# Altium integrated library Texas Instruments Interface 1394.IntLib: 47 symbols (part 11 of 17)
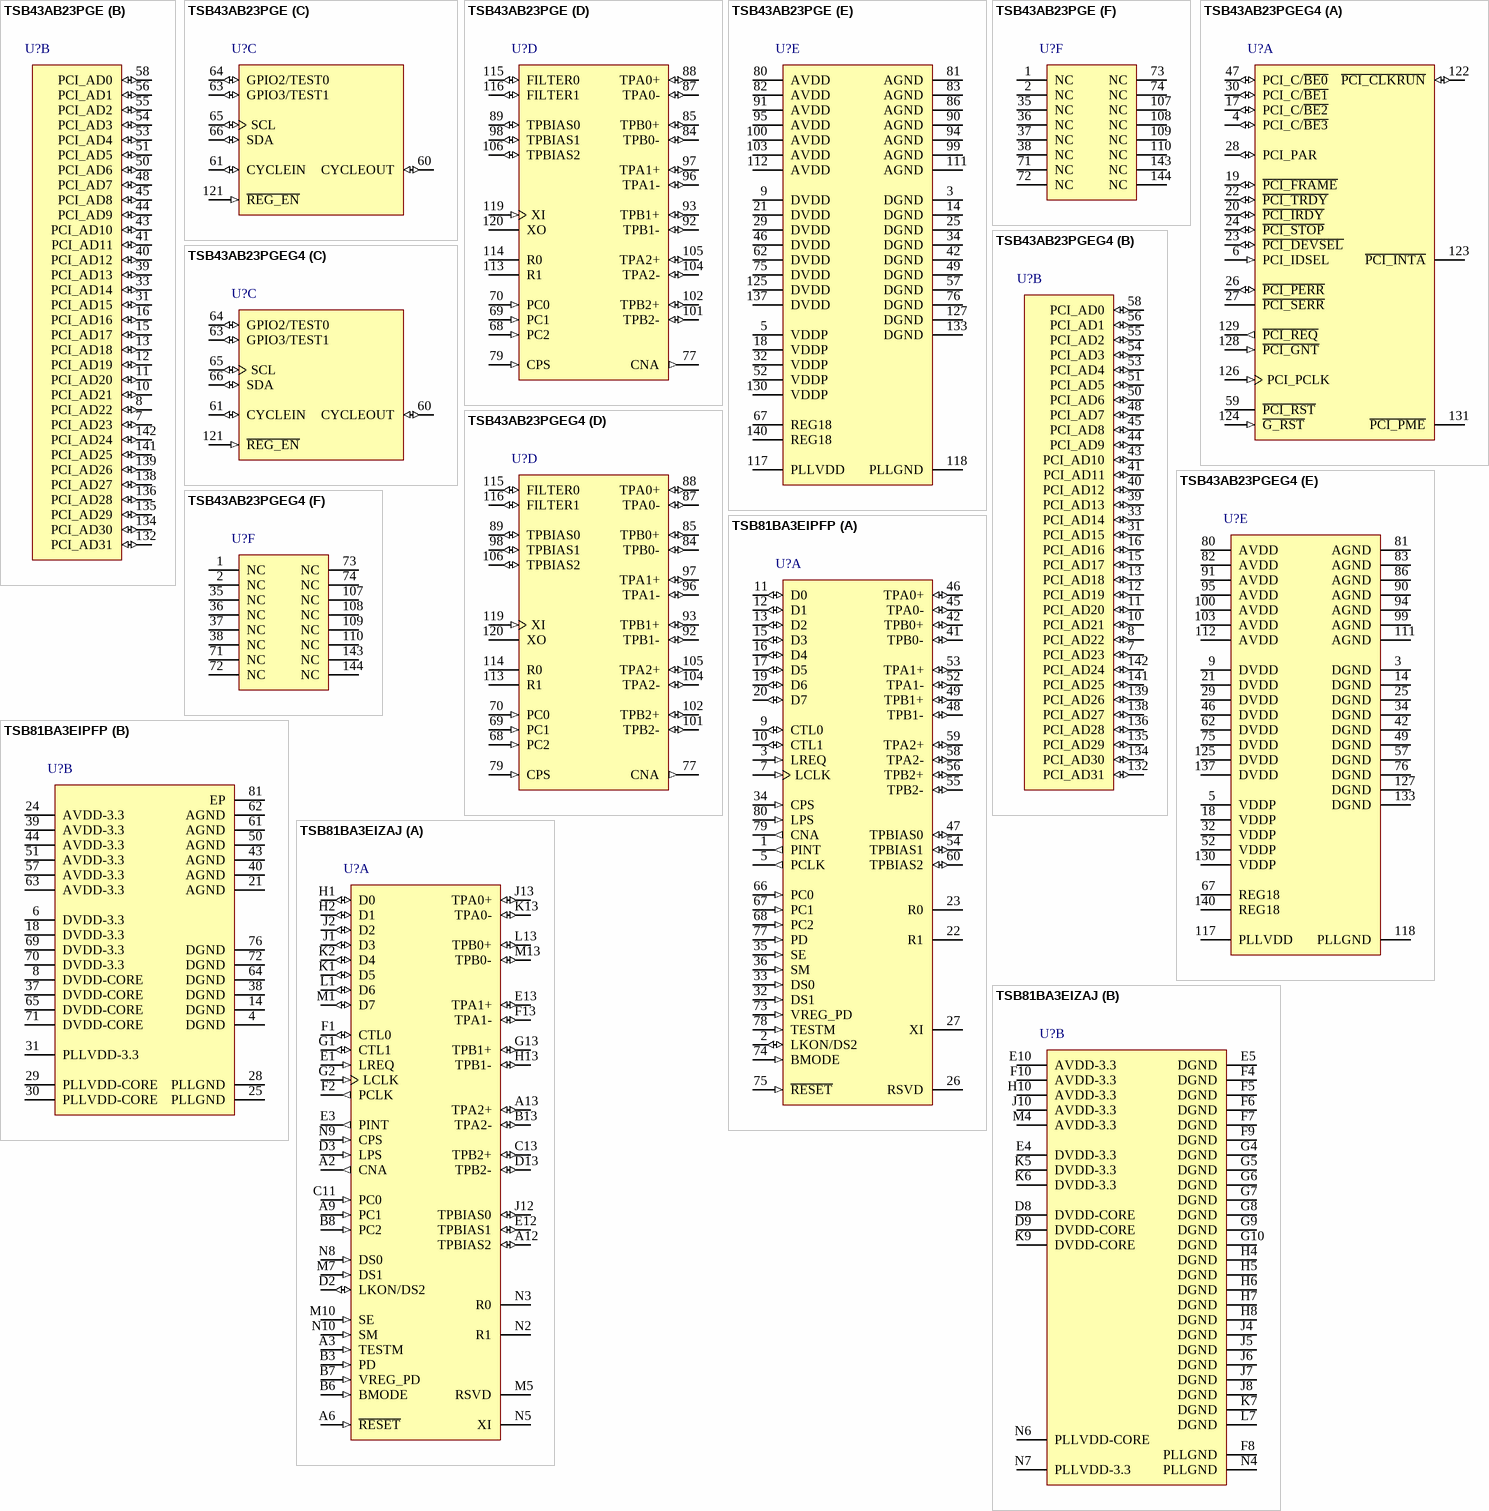
[diagram p21: symbols TSB43AB23PGE to TSB81BA3EIZAJ]

## TSB43AB23PGE
designator U?
IEEE 1394a-2000 OHCI PHY/Link Layer Controller, 0 to 70 degC, 144-Pin LQFP (PGE), Green (RoHS & no Sb/Br); PartNumber: TSB43AB23PGE; Manufacturer: Texas Instruments; SubFamily: 1394 Integrated Device; Speed(Max)(Mbps): 400; FIFO(kb): 9; DatasheetVersion: SLLS450A; PackageVersion: revC, Oct-1996; PackageReference: PGE144; PackageDescription: 144-Pin Plastic Quad Flat Pack, 20 x 20 mm Body, 0.5 mm Pitch; Mounting Technology: Surface Mount; ComponentLink1Description: Datasheet; ComponentLink1URL: http://www.ti.com/general/docs/lit/getliterature.tsp?genericPartNumber=TSB43AB23&fileType=pdf; ComponentLink2Description: Package Specification; ComponentLink2URL: http://www.ti.com/litv/pdf/mtqf017a
footprint TI-PGE144_N (Thin QFP, 144-Leads, Body 20x20mm, Pitch 0.5mm, IPC Medium Density)
footprint TI-PGE144_L (Thin QFP, 144-Leads, Body 20x20mm, Pitch 0.5mm, IPC High Density)
footprint TI-PGE144_M (Thin QFP, 144-Leads, Body 20x20mm, Pitch 0.5mm, IPC Low Density)
part A pins: 4 PCI_C/~{BE3} (io) "PCI bus commands and byte enables. The command and byte enable signals are multiplexed on the same PCI terminals. [see datasheet]", 6 PCI_IDSEL (in) "Initialization device select. PCI_IDSEL selects the TSB43AB23 device during configuration space accesses. [see datasheet]", 17 PCI_C/~{BE2} (io) "PCI bus commands and byte enables. The command and byte enable signals are multiplexed on the same PCI terminals. [see datasheet]", 19 ~{PCI_FRAME} (io) "PCI cycle frame. This signal is driven by the initiator of a PCI bus cycle. [see datasheet]", 20 ~{PCI_IRDY} (io) "PCI initiator ready. P\C\I\_\I\R\D\Y\ indicates the ability of the PCI bus initiator to complete the current data phase of the transaction. [see datasheet]", 22 ~{PCI_TRDY} (io) "PCI target ready. P\C\I\_\T\R\D\Y\ indicates the ability of the PCI bus target to complete the current data phase of the transaction. [see datasheet]", 23 ~{PCI_DEVSEL} (io) "PCI device select. The TSB43AB23 device asserts this signal to claim a PCI cycle as the target device. [see datasheet]", 24 ~{PCI_STOP} (io) "PCI cycle stop signal. This signal is driven by a PCI target to request the initiator to stop the current PCI bus transaction. [see datasheet]", 26 ~{PCI_PERR} (io) "PCI parity error indicator. [see datasheet]", 27 ~{PCI_SERR} (oc) "PCI system error. When bit 8 (SERR_ENB) in the command register at offset 04h in the PCIconfiguration space (see Section 3. [see datasheet]", 28 PCI_PAR (io) "PCI parity. In all PCI bus read and write cycles, the TSB43AB23 device calculates even parity across the PCI_AD and PCI_C/B\E\ buses. [see datasheet]", 30 PCI_C/~{BE1} (io) "PCI bus commands and byte enables. The command and byte enable signals are multiplexed on the same PCI terminals. [see datasheet]", 47 PCI_C/~{BE0} (io) "PCI bus commands and byte enables. The command and byte enable signals are multiplexed on thesame PCI terminals. [see datasheet]", 59 ~{PCI_RST} (hiz) "PCI reset. [see datasheet]", 122 ~{PCI_CLKRUN} (io) "Clock run. This terminal provides clock control through the C\L\K\R\U\N\ protocol. [see datasheet]", 123 ~{PCI_INTA} (oc) "Interrupt signal. This output indicates interrupts from the TSB43AB23 device to the host. This terminal is implemented as open-drain.", 124 ~{G_RST} (in) "Global power reset. This reset brings all of the TSB43AB23 internal registers to their default states,including those registers not reset by P\C\I\_\R\S\T\. [see datasheet]", 126 PCI_PCLK (in) "PCI bus clock. Provides timing for all transactions on the PCI bus. All PCI signals are sampled at the rising edge of PCI_CLK.", 128 ~{PCI_GNT} (in) "PCI bus grant. This signal is driven by the PCI bus arbiter to grant the TSB43AB23 device access to the PCI bus after the current data transaction has completed. [see datasheet]", 129 ~{PCI_REQ} (out) "PCI bus request. Asserted by the TSB43AB23 device to request access to the bus as an initiator. [see datasheet]", 131 ~{PCI_PME} (oc) "Power management event. This terminal indicates wake events to the host and is implemented as an open-drain output."
part B pins: 7 PCI_AD23 (io) "PCI address/data bus. These signals make up the multiplexed PCI address and data bus on the PCI interface. [see datasheet]", 8 PCI_AD22 (io) "PCI address/data bus. These signals make up the multiplexed PCI address and data bus on the PCI interface. [see datasheet]", 10 PCI_AD21 (io) "PCI address/data bus. These signals make up the multiplexed PCI address and data bus on the PCI interface. [see datasheet]", 11 PCI_AD20 (io) "PCI address/data bus. These signals make up the multiplexed PCI address and data bus on the PCI interface. [see datasheet]", 12 PCI_AD19 (io) "PCI address/data bus. These signals make up the multiplexed PCI address and data bus on the PCI interface. [see datasheet]", 13 PCI_AD18 (io) "PCI address/data bus. These signals make up the multiplexed PCI address and data bus on the PCI interface. [see datasheet]", 15 PCI_AD17 (io) "PCI address/data bus. These signals make up the multiplexed PCI address and data bus on the PCI interface. [see datasheet]", 16 PCI_AD16 (io) "PCI address/data bus. These signals make up the multiplexed PCI address and data bus on the PCI interface. [see datasheet]", 31 PCI_AD15 (io) "PCI address/data bus. These signals make up the multiplexed PCI address and data bus on the PCI interface. [see datasheet]", 33 PCI_AD14 (io) "PCI address/data bus. These signals make up the multiplexed PCI address and data bus on the PCI interface. [see datasheet]", 39 PCI_AD13 (io) "PCI address/data bus. These signals make up the multiplexed PCI address and data bus on the PCI interface. [see datasheet]", 40 PCI_AD12 (io) "PCI address/data bus. These signals make up the multiplexed PCI address and data bus on the PCI interface. [see datasheet]", 41 PCI_AD11 (io) "PCI address/data bus. These signals make up the multiplexed PCI address and data bus on the PCI interface. [see datasheet]", 43 PCI_AD10 (io) "PCI address/data bus. These signals make up the multiplexed PCI address and data bus on the PCI interface. [see datasheet]", 44 PCI_AD9 (io) "PCI address/data bus. These signals make up the multiplexed PCI address and data bus on the PCI interface. [see datasheet]", 45 PCI_AD8 (io) "PCI address/data bus. These signals make up the multiplexed PCI address and data bus on the PCI interface. [see datasheet]", 48 PCI_AD7 (io) "PCI address/data bus. These signals make up the multiplexed PCI address and data bus on the PCIinterface. [see datasheet]", 50 PCI_AD6 (io) "PCI address/data bus. These signals make up the multiplexed PCI address and data bus on the PCI interface. [see datasheet]", 51 PCI_AD5 (io) "PCI address/data bus. These signals make up the multiplexed PCI address and data bus on the PCI interface. [see datasheet]", 53 PCI_AD4 (io) "PCI address/data bus. These signals make up the multiplexed PCI address and data bus on the PCI interface. [see datasheet]", 54 PCI_AD3 (io) "PCI address/data bus. These signals make up the multiplexed PCI address and data bus on the PCI interface. [see datasheet]", 55 PCI_AD2 (io) "PCI address/data bus. These signals make up the multiplexed PCI address and data bus on the PCI interface. [see datasheet]", 56 PCI_AD1 (io) "PCI address/data bus. These signals make up the multiplexed PCI address and data bus on the PCI interface. [see datasheet]", 58 PCI_AD0 (io) "PCI address/data bus. These signals make up the multiplexed PCI address and data bus on the PCI interface. [see datasheet]", 132 PCI_AD31 (io) "PCI address/data bus. These signals make up the multiplexed PCI address and data bus on the PCI interface. [see datasheet]", 134 PCI_AD30 (io) "PCI address/data bus. These signals make up the multiplexed PCI address and data bus on the PCI interface. [see datasheet]", 135 PCI_AD29 (io) "PCI address/data bus. These signals make up the multiplexed PCI address and data bus on the PCI interface. [see datasheet]", 136 PCI_AD28 (io) "PCI address/data bus. These signals make up the multiplexed PCI address and data bus on the PCI interface. [see datasheet]", 138 PCI_AD27 (io) "PCI address/data bus. These signals make up the multiplexed PCI address and data bus on the PCI interface. [see datasheet]", 139 PCI_AD26 (io) "PCI address/data bus. These signals make up the multiplexed PCI address and data bus on the PCI interface. [see datasheet]", 141 PCI_AD25 (io) "PCI address/data bus. These signals make up the multiplexed PCI address and data bus on the PCI interface. [see datasheet]", 142 PCI_AD24 (io) "PCI address/data bus. These signals make up the multiplexed PCI address and data bus on the PCI interface. [see datasheet]"
part C pins: 60 CYCLEOUT (io) "The CYCLEOUT terminal provides an 8-kHz cycle timer synchronization signal. If CYCLEOUT is not implemented, this terminal must be pulled down to ground through a pulldown resistor.", 61 CYCLEIN (io) "The CYCLEIN terminal allows an external 8-kHz clock to be used as a cycle timer for synchronization with other system devices. [see datasheet]", 63 GPIO3/TEST1 (io) "General-purpose I/O [3]. This terminal defaults as an input and if it is not implemented, it is recommended that it be pulled low to ground with a 220-ohm resistor.", 64 GPIO2/TEST0 (io) "General-purpose I/O [2]. This terminal defaults as an input and if it is not implemented, it is recommended that it be pulled low to ground with a 220-ohm resistor.", 65 SCL (io) "Serial clock. This terminal provides the serial clock signaling and is implemented as open-drain. [see datasheet]", 66 SDA (io) "Serial data. At P\C\I\_\R\S\T\, the SDA signal is sampled to determine if a two-wire serial ROM is present. [see datasheet]", 121 ~{REG_EN} (in) "Regulator enable. This terminal must be tied to ground to enable the internal voltage regulator. When using a single 3. [see datasheet]"
part D pins: 68 PC2 (in) "Power class programming inputs. On hardware reset, these inputs set the default value ofthe power class indicated during self-ID. [see datasheet]", 69 PC1 (in) "Power class programming inputs. On hardware reset, these inputs set the default value of the power class indicated during self-ID. [see datasheet]", 70 PC0 (in) "Power class programming inputs. On hardware reset, these inputs set the default value of the power class indicated during self-ID. [see datasheet]", 77 CNA (out) "Cable not active. This terminal is asserted high when there are no ports receiving incomingbias voltage. [see datasheet]", 79 CPS (in) "Cable power status input. This terminal is normally connected to cable power through a 400-k ohm resistor. [see datasheet]", 84 TPB0- (io) "Twisted-pair cable B differential signal terminals. [see datasheet]", 85 TPB0+ (io) "Twisted-pair cable B differential signal terminals. [see datasheet]", 87 TPA0- (io) "Twisted-pair cable A differential signal terminals. [see datasheet]", 88 TPA0+ (io) "Twisted-pair cable A differential signal terminals. [see datasheet]", 89 TPBIAS0 (io) "Twisted-pair bias output. This provides the 1. [see datasheet]", 92 TPB1- (io) "Twisted-pair cable B differential signal terminals. [see datasheet]", 93 TPB1+ (io) "Twisted-pair cable B differential signal terminals. [see datasheet]", 96 TPA1- (io) "Twisted-pair cable A differential signal terminals. [see datasheet]", 97 TPA1+ (io) "Twisted-pair cable A differential signal terminals. [see datasheet]", 98 TPBIAS1 (io) "Twisted-pair bias output. This provides the 1. [see datasheet]", 101 TPB2- (io) "Twisted-pair cable B differential signal terminals. [see datasheet]", 102 TPB2+ (io) "Twisted-pair cable B differential signal terminals. [see datasheet]", 104 TPA2- (io) "Twisted-pair cable A differential signal terminals. [see datasheet]", 105 TPA2+ (io) "Twisted-pair cable A differential signal terminals. [see datasheet]", 106 TPBIAS2 (io) "Twisted-pair bias output. This provides the 1. [see datasheet]", 113 R1 "Current-setting resistor terminals. These terminals are connected to an external resistance to set the internal operating currents and cable driver output currents. A resistance of 6. [see datasheet]", 114 R0 "Current-setting resistor terminals. These terminals are connected to an external resistance to set the internal operating currents and cable driver output currents. A resistance of 6. [see datasheet]", 115 FILTER0 (io) "PLL filter terminals. [see datasheet]", 116 FILTER1 (io) "PLL filter terminals. [see datasheet]", 119 XI (in) "Crystal oscillator inputs. These pins connect to a 24.576-MHz parallel resonant fundamental mode crystal. [see datasheet]", 120 XO "Crystal oscillator inputs. These pins connect to a 24.576-MHz parallel resonant fundamental mode crystal. [see datasheet]"
part E pins: 3 DGND (power) "Digital circuit ground terminals. These terminals must be tied together to the low-impedance circuit board ground plane", 5 VDDP (power) "PCI signaling clamp voltage power input. PCI signals are clamped perthe PCI Local Bus Specification. In addition, if a 5-V ROM is used, the VDDP must be connected to 5 V", 9 DVDD (power) "Digital circuit power terminals. A parallel combination of high frequency decoupling capacitors near each DVDD terminal is suggested, such as 0.1 uF and 0.001 uF. [see datasheet]", 14 DGND (power) "Digital circuit ground terminals. These terminals must be tied together to the low-impedance circuit board ground plane", 18 VDDP (power) "PCI signaling clamp voltage power input. PCI signals are clamped per the PCI Local Bus Specification. In addition, if a 5-V ROM is used, the VDDP must be connected to 5 V", 21 DVDD (power) "Digital circuit power terminals. A parallel combination of high frequency decoupling capacitors near each DVDD terminal is suggested, such as 0.1 uF and 0.001 uF. [see datasheet]", 25 DGND (power) "Digital circuit ground terminals. These terminals must be tied together to the low-impedance circuit board ground plane", 29 DVDD (power) "Digital circuit power terminals. A parallel combination of high frequency decoupling capacitors near each DVDD terminal is suggested, such as 0.1 uF and 0.001 uF. [see datasheet]", 32 VDDP (power) "PCI signaling clamp voltage power input. PCI signals are clamped per the PCI Local Bus Specification. In addition, if a 5-V ROM is used, the VDDP must be connected to 5 V", 34 DGND (power) "Digital circuit ground terminals. These terminals must be tied together to the low-impedance circuit board ground plane", 42 DGND (power) "Digital circuit ground terminals. These terminals must be tied togetherto the low-impedance circuit board ground plane", 46 DVDD (power) "Digital circuit power terminals. A parallel combination of high frequency decoupling capacitors near each DVDD terminal is suggested, such as 0.1 uF and 0.001 uF. [see datasheet]", 49 DGND (power) "Digital circuit ground terminals. These terminals must be tied together to the low-impedance circuit board ground plane", 52 VDDP (power) "PCI signaling clamp voltage power input. PCI signals are clamped per the PCI Local Bus Specification. In addition, if a 5-V ROM is used, the VDDP must be connected to 5 V", 57 DGND (power) "Digital circuit ground terminals. These terminals must be tied together to the low-impedance circuit board ground plane", 62 DVDD (power) "Digital circuit power terminals. A parallel combination of high frequency decoupling capacitors near each DVDD terminal is suggested, such as 0.1 uF and 0.001 uF. [see datasheet]", 67 REG18 (power) "REG18. 1.8-V power supply for the device core. The internal voltage regulator provides 1.8 V from DVDD. [see datasheet]", 75 DVDD (power) "Digital circuit power terminals. A parallel combination of high frequency decoupling capacitors near each DVDD terminal is suggested, such as 0.1 uF and 0.001 uF. [see datasheet]", 76 DGND (power) "Digital circuit ground terminals. These terminals must be tied together to the low-impedance circuit board ground plane", 80 AVDD (power) "Analog circuit power terminals. A parallel combination of high frequency decoupling capacitors near each terminal is suggested, such as 0.1  uF and 0.001  uF. [see datasheet]", 81 AGND (power) "Analog circuit ground terminals. These terminals must be tied together to the low-impedance circuit board ground plane", 82 AVDD (power) "Analog circuit power terminals. A parallel combination of high frequency decoupling capacitors near each terminal is suggested, such as 0.1  uF and 0.001  uF. [see datasheet]", 83 AGND (power) "Analog circuit ground terminals. These terminals must be tied together to the low-impedance circuit board ground plane", 86 AGND (power) "Analog circuit ground terminals. These terminals must be tied together to the low-impedance circuit board ground plane", 90 AGND (power) "Analog circuit ground terminals. These terminals must be tied together to the low-impedance circuit board ground plane", 91 AVDD (power) "Analog circuit power terminals. A parallel combination of high frequency decoupling capacitors near each terminal is suggested, such as 0.1  uF and 0.001  uF. [see datasheet]", 94 AGND (power) "Analog circuit ground terminals. These terminals must be tied together to the low-impedance circuit board ground plane", 95 AVDD (power) "Analog circuit power terminals. A parallel combination of high frequency decoupling capacitors near each terminal is suggested, such as 0.1  uF and 0.001  uF. [see datasheet]", 99 AGND (power) "Analog circuit ground terminals. These terminals must be tied together to the low-impedance circuit board ground plane", 100 AVDD (power) "Analog circuit power terminals. A parallel combination of high frequency decoupling capacitors near each terminal is suggested, such as 0.1  uF and 0.001  uF. [see datasheet]", 103 AVDD (power) "Analog circuit power terminals. A parallel combination of high frequency decoupling capacitors near each terminal is suggested, such as 0.1  uF and 0.001  uF. [see datasheet]", 111 AGND (power) "Analog circuit ground terminals. These terminals must be tied together to the low-impedance circuit board ground plane", 112 AVDD (power) "Analog circuit power terminals. A parallel combination of high frequency decoupling capacitors near each terminal is suggested, such as 0.1  uF and 0.001  uF. [see datasheet]", 117 PLLVDD (power) "PLL circuit power terminal. A parallel combination of high frequency decoupling capacitors near the terminal is suggested, such as 0.1 uF and 0.001 uF. [see datasheet]", 118 PLLGND (power) "PLL circuit ground terminal. This terminal must be tied to the low-impedance circuit board ground plane.", 125 DVDD (power) "Digital circuit power terminals. A parallel combination of high frequency decoupling capacitors near each DVDD terminal is suggested, such as 0.1 uF and 0.001 uF. [see datasheet]", 127 DGND (power) "Digital circuit ground terminals. These terminals must be tied together to the low-impedance circuit board ground plane", 130 VDDP (power) "PCI signaling clamp voltage power input. PCI signals are clamped per the PCI Local Bus Specification. In addition, if a 5-V ROM is used, the VDDP must be connected to 5 V", 133 DGND (power) "Digital circuit ground terminals. These terminals must be tied together to the low-impedance circuit board ground plane", 137 DVDD (power) "Digital circuit power terminals. A parallel combination of high frequency decoupling capacitors near each DVDD terminal is suggested, such as 0.1 uF and 0.001 uF. [see datasheet]", 140 REG18 (power) "REG18. 1.8-V power supply for the device core. The internal voltage regulator provides 1.8 V from DVDD. [see datasheet]"
part F pins: 1 NC, 2 NC, 35 NC, 36 NC, 37 NC, 38 NC, 71 NC, 72 NC, 73 NC, 74 NC, 107 NC, 108 NC, 109 NC, 110 NC, 143 NC, 144 NC

## TSB43AB23PGEG4
designator U?
IEEE 1394a-2000 OHCI PHY/Link Layer Controller, 0 to 70 degC, 144-Pin LQFP (PGE), Green (RoHS & no Sb/Br); PartNumber: TSB43AB23PGEG4; Manufacturer: Texas Instruments; SubFamily: 1394 Integrated Device; Speed(Max)(Mbps): 400; FIFO(kb): 9; DatasheetVersion: SLLS450A; PackageVersion: revC, Oct-1996; PackageReference: PGE144; PackageDescription: 144-Pin Plastic Quad Flat Pack, 20 x 20 mm Body, 0.5 mm Pitch; Mounting Technology: Surface Mount; ComponentLink1Description: Datasheet; ComponentLink1URL: http://www.ti.com/general/docs/lit/getliterature.tsp?genericPartNumber=TSB43AB23&fileType=pdf; ComponentLink2Description: Package Specification; ComponentLink2URL: http://www.ti.com/litv/pdf/mtqf017a
footprint TI-PGE144_N (Thin QFP, 144-Leads, Body 20x20mm, Pitch 0.5mm, IPC Medium Density)
footprint TI-PGE144_L (Thin QFP, 144-Leads, Body 20x20mm, Pitch 0.5mm, IPC High Density)
footprint TI-PGE144_M (Thin QFP, 144-Leads, Body 20x20mm, Pitch 0.5mm, IPC Low Density)
part A pins: 4 PCI_C/~{BE3} (io) "PCI bus commands and byte enables. The command and byte enable signals are multiplexed on the same PCI terminals. [see datasheet]", 6 PCI_IDSEL (in) "Initialization device select. PCI_IDSEL selects the TSB43AB23 device during configuration space accesses. [see datasheet]", 17 PCI_C/~{BE2} (io) "PCI bus commands and byte enables. The command and byte enable signals are multiplexed on the same PCI terminals. [see datasheet]", 19 ~{PCI_FRAME} (io) "PCI cycle frame. This signal is driven by the initiator of a PCI bus cycle. [see datasheet]", 20 ~{PCI_IRDY} (io) "PCI initiator ready. P\C\I\_\I\R\D\Y\ indicates the ability of the PCI bus initiator to complete the current data phase of the transaction. [see datasheet]", 22 ~{PCI_TRDY} (io) "PCI target ready. P\C\I\_\T\R\D\Y\ indicates the ability of the PCI bus target to complete the current data phase of the transaction. [see datasheet]", 23 ~{PCI_DEVSEL} (io) "PCI device select. The TSB43AB23 device asserts this signal to claim a PCI cycle as the target device. [see datasheet]", 24 ~{PCI_STOP} (io) "PCI cycle stop signal. This signal is driven by a PCI target to request the initiator to stop the current PCI bus transaction. [see datasheet]", 26 ~{PCI_PERR} (io) "PCI parity error indicator. [see datasheet]", 27 ~{PCI_SERR} (oc) "PCI system error. When bit 8 (SERR_ENB) in the command register at offset 04h in the PCIconfiguration space (see Section 3. [see datasheet]", 28 PCI_PAR (io) "PCI parity. In all PCI bus read and write cycles, the TSB43AB23 device calculates even parity across the PCI_AD and PCI_C/B\E\ buses. [see datasheet]", 30 PCI_C/~{BE1} (io) "PCI bus commands and byte enables. The command and byte enable signals are multiplexed on the same PCI terminals. [see datasheet]", 47 PCI_C/~{BE0} (io) "PCI bus commands and byte enables. The command and byte enable signals are multiplexed on thesame PCI terminals. [see datasheet]", 59 ~{PCI_RST} (hiz) "PCI reset. [see datasheet]", 122 ~{PCI_CLKRUN} (io) "Clock run. This terminal provides clock control through the C\L\K\R\U\N\ protocol. [see datasheet]", 123 ~{PCI_INTA} (oc) "Interrupt signal. This output indicates interrupts from the TSB43AB23 device to the host. This terminal is implemented as open-drain.", 124 ~{G_RST} (in) "Global power reset. This reset brings all of the TSB43AB23 internal registers to their default states,including those registers not reset by P\C\I\_\R\S\T\. [see datasheet]", 126 PCI_PCLK (in) "PCI bus clock. Provides timing for all transactions on the PCI bus. All PCI signals are sampled at the rising edge of PCI_CLK.", 128 ~{PCI_GNT} (in) "PCI bus grant. This signal is driven by the PCI bus arbiter to grant the TSB43AB23 device access to the PCI bus after the current data transaction has completed. [see datasheet]", 129 ~{PCI_REQ} (out) "PCI bus request. Asserted by the TSB43AB23 device to request access to the bus as an initiator. [see datasheet]", 131 ~{PCI_PME} (oc) "Power management event. This terminal indicates wake events to the host and is implemented as an open-drain output."
part B pins: 7 PCI_AD23 (io) "PCI address/data bus. These signals make up the multiplexed PCI address and data bus on the PCI interface. [see datasheet]", 8 PCI_AD22 (io) "PCI address/data bus. These signals make up the multiplexed PCI address and data bus on the PCI interface. [see datasheet]", 10 PCI_AD21 (io) "PCI address/data bus. These signals make up the multiplexed PCI address and data bus on the PCI interface. [see datasheet]", 11 PCI_AD20 (io) "PCI address/data bus. These signals make up the multiplexed PCI address and data bus on the PCI interface. [see datasheet]", 12 PCI_AD19 (io) "PCI address/data bus. These signals make up the multiplexed PCI address and data bus on the PCI interface. [see datasheet]", 13 PCI_AD18 (io) "PCI address/data bus. These signals make up the multiplexed PCI address and data bus on the PCI interface. [see datasheet]", 15 PCI_AD17 (io) "PCI address/data bus. These signals make up the multiplexed PCI address and data bus on the PCI interface. [see datasheet]", 16 PCI_AD16 (io) "PCI address/data bus. These signals make up the multiplexed PCI address and data bus on the PCI interface. [see datasheet]", 31 PCI_AD15 (io) "PCI address/data bus. These signals make up the multiplexed PCI address and data bus on the PCI interface. [see datasheet]", 33 PCI_AD14 (io) "PCI address/data bus. These signals make up the multiplexed PCI address and data bus on the PCI interface. [see datasheet]", 39 PCI_AD13 (io) "PCI address/data bus. These signals make up the multiplexed PCI address and data bus on the PCI interface. [see datasheet]", 40 PCI_AD12 (io) "PCI address/data bus. These signals make up the multiplexed PCI address and data bus on the PCI interface. [see datasheet]", 41 PCI_AD11 (io) "PCI address/data bus. These signals make up the multiplexed PCI address and data bus on the PCI interface. [see datasheet]", 43 PCI_AD10 (io) "PCI address/data bus. These signals make up the multiplexed PCI address and data bus on the PCI interface. [see datasheet]", 44 PCI_AD9 (io) "PCI address/data bus. These signals make up the multiplexed PCI address and data bus on the PCI interface. [see datasheet]", 45 PCI_AD8 (io) "PCI address/data bus. These signals make up the multiplexed PCI address and data bus on the PCI interface. [see datasheet]", 48 PCI_AD7 (io) "PCI address/data bus. These signals make up the multiplexed PCI address and data bus on the PCIinterface. [see datasheet]", 50 PCI_AD6 (io) "PCI address/data bus. These signals make up the multiplexed PCI address and data bus on the PCI interface. [see datasheet]", 51 PCI_AD5 (io) "PCI address/data bus. These signals make up the multiplexed PCI address and data bus on the PCI interface. [see datasheet]", 53 PCI_AD4 (io) "PCI address/data bus. These signals make up the multiplexed PCI address and data bus on the PCI interface. [see datasheet]", 54 PCI_AD3 (io) "PCI address/data bus. These signals make up the multiplexed PCI address and data bus on the PCI interface. [see datasheet]", 55 PCI_AD2 (io) "PCI address/data bus. These signals make up the multiplexed PCI address and data bus on the PCI interface. [see datasheet]", 56 PCI_AD1 (io) "PCI address/data bus. These signals make up the multiplexed PCI address and data bus on the PCI interface. [see datasheet]", 58 PCI_AD0 (io) "PCI address/data bus. These signals make up the multiplexed PCI address and data bus on the PCI interface. [see datasheet]", 132 PCI_AD31 (io) "PCI address/data bus. These signals make up the multiplexed PCI address and data bus on the PCI interface. [see datasheet]", 134 PCI_AD30 (io) "PCI address/data bus. These signals make up the multiplexed PCI address and data bus on the PCI interface. [see datasheet]", 135 PCI_AD29 (io) "PCI address/data bus. These signals make up the multiplexed PCI address and data bus on the PCI interface. [see datasheet]", 136 PCI_AD28 (io) "PCI address/data bus. These signals make up the multiplexed PCI address and data bus on the PCI interface. [see datasheet]", 138 PCI_AD27 (io) "PCI address/data bus. These signals make up the multiplexed PCI address and data bus on the PCI interface. [see datasheet]", 139 PCI_AD26 (io) "PCI address/data bus. These signals make up the multiplexed PCI address and data bus on the PCI interface. [see datasheet]", 141 PCI_AD25 (io) "PCI address/data bus. These signals make up the multiplexed PCI address and data bus on the PCI interface. [see datasheet]", 142 PCI_AD24 (io) "PCI address/data bus. These signals make up the multiplexed PCI address and data bus on the PCI interface. [see datasheet]"
part C pins: 60 CYCLEOUT (io) "The CYCLEOUT terminal provides an 8-kHz cycle timer synchronization signal. If CYCLEOUT is not implemented, this terminal must be pulled down to ground through a pulldown resistor.", 61 CYCLEIN (io) "The CYCLEIN terminal allows an external 8-kHz clock to be used as a cycle timer for synchronization with other system devices. [see datasheet]", 63 GPIO3/TEST1 (io) "General-purpose I/O [3]. This terminal defaults as an input and if it is not implemented, it is recommended that it be pulled low to ground with a 220-ohm resistor.", 64 GPIO2/TEST0 (io) "General-purpose I/O [2]. This terminal defaults as an input and if it is not implemented, it is recommended that it be pulled low to ground with a 220-ohm resistor.", 65 SCL (io) "Serial clock. This terminal provides the serial clock signaling and is implemented as open-drain. [see datasheet]", 66 SDA (io) "Serial data. At P\C\I\_\R\S\T\, the SDA signal is sampled to determine if a two-wire serial ROM is present. [see datasheet]", 121 ~{REG_EN} (in) "Regulator enable. This terminal must be tied to ground to enable the internal voltage regulator. When using a single 3. [see datasheet]"
part D pins: 68 PC2 (in) "Power class programming inputs. On hardware reset, these inputs set the default value ofthe power class indicated during self-ID. [see datasheet]", 69 PC1 (in) "Power class programming inputs. On hardware reset, these inputs set the default value of the power class indicated during self-ID. [see datasheet]", 70 PC0 (in) "Power class programming inputs. On hardware reset, these inputs set the default value of the power class indicated during self-ID. [see datasheet]", 77 CNA (out) "Cable not active. This terminal is asserted high when there are no ports receiving incomingbias voltage. [see datasheet]", 79 CPS (in) "Cable power status input. This terminal is normally connected to cable power through a 400-k ohm resistor. [see datasheet]", 84 TPB0- (io) "Twisted-pair cable B differential signal terminals. [see datasheet]", 85 TPB0+ (io) "Twisted-pair cable B differential signal terminals. [see datasheet]", 87 TPA0- (io) "Twisted-pair cable A differential signal terminals. [see datasheet]", 88 TPA0+ (io) "Twisted-pair cable A differential signal terminals. [see datasheet]", 89 TPBIAS0 (io) "Twisted-pair bias output. This provides the 1. [see datasheet]", 92 TPB1- (io) "Twisted-pair cable B differential signal terminals. [see datasheet]", 93 TPB1+ (io) "Twisted-pair cable B differential signal terminals. [see datasheet]", 96 TPA1- (io) "Twisted-pair cable A differential signal terminals. [see datasheet]", 97 TPA1+ (io) "Twisted-pair cable A differential signal terminals. [see datasheet]", 98 TPBIAS1 (io) "Twisted-pair bias output. This provides the 1. [see datasheet]", 101 TPB2- (io) "Twisted-pair cable B differential signal terminals. [see datasheet]", 102 TPB2+ (io) "Twisted-pair cable B differential signal terminals. [see datasheet]", 104 TPA2- (io) "Twisted-pair cable A differential signal terminals. [see datasheet]", 105 TPA2+ (io) "Twisted-pair cable A differential signal terminals. [see datasheet]", 106 TPBIAS2 (io) "Twisted-pair bias output. This provides the 1. [see datasheet]", 113 R1 "Current-setting resistor terminals. These terminals are connected to an external resistance to set the internal operating currents and cable driver output currents. A resistance of 6. [see datasheet]", 114 R0 "Current-setting resistor terminals. These terminals are connected to an external resistance to set the internal operating currents and cable driver output currents. A resistance of 6. [see datasheet]", 115 FILTER0 (io) "PLL filter terminals. [see datasheet]", 116 FILTER1 (io) "PLL filter terminals. [see datasheet]", 119 XI (in) "Crystal oscillator inputs. These pins connect to a 24.576-MHz parallel resonant fundamental mode crystal. [see datasheet]", 120 XO "Crystal oscillator inputs. These pins connect to a 24.576-MHz parallel resonant fundamental mode crystal. [see datasheet]"
part E pins: 3 DGND (power) "Digital circuit ground terminals. These terminals must be tied together to the low-impedance circuit board ground plane", 5 VDDP (power) "PCI signaling clamp voltage power input. PCI signals are clamped perthe PCI Local Bus Specification. In addition, if a 5-V ROM is used, the VDDP must be connected to 5 V", 9 DVDD (power) "Digital circuit power terminals. A parallel combination of high frequency decoupling capacitors near each DVDD terminal is suggested, such as 0.1 uF and 0.001 uF. [see datasheet]", 14 DGND (power) "Digital circuit ground terminals. These terminals must be tied together to the low-impedance circuit board ground plane", 18 VDDP (power) "PCI signaling clamp voltage power input. PCI signals are clamped per the PCI Local Bus Specification. In addition, if a 5-V ROM is used, the VDDP must be connected to 5 V", 21 DVDD (power) "Digital circuit power terminals. A parallel combination of high frequency decoupling capacitors near each DVDD terminal is suggested, such as 0.1 uF and 0.001 uF. [see datasheet]", 25 DGND (power) "Digital circuit ground terminals. These terminals must be tied together to the low-impedance circuit board ground plane", 29 DVDD (power) "Digital circuit power terminals. A parallel combination of high frequency decoupling capacitors near each DVDD terminal is suggested, such as 0.1 uF and 0.001 uF. [see datasheet]", 32 VDDP (power) "PCI signaling clamp voltage power input. PCI signals are clamped per the PCI Local Bus Specification. In addition, if a 5-V ROM is used, the VDDP must be connected to 5 V", 34 DGND (power) "Digital circuit ground terminals. These terminals must be tied together to the low-impedance circuit board ground plane", 42 DGND (power) "Digital circuit ground terminals. These terminals must be tied togetherto the low-impedance circuit board ground plane", 46 DVDD (power) "Digital circuit power terminals. A parallel combination of high frequency decoupling capacitors near each DVDD terminal is suggested, such as 0.1 uF and 0.001 uF. [see datasheet]", 49 DGND (power) "Digital circuit ground terminals. These terminals must be tied together to the low-impedance circuit board ground plane", 52 VDDP (power) "PCI signaling clamp voltage power input. PCI signals are clamped per the PCI Local Bus Specification. In addition, if a 5-V ROM is used, the VDDP must be connected to 5 V", 57 DGND (power) "Digital circuit ground terminals. These terminals must be tied together to the low-impedance circuit board ground plane", 62 DVDD (power) "Digital circuit power terminals. A parallel combination of high frequency decoupling capacitors near each DVDD terminal is suggested, such as 0.1 uF and 0.001 uF. [see datasheet]", 67 REG18 (power) "REG18. 1.8-V power supply for the device core. The internal voltage regulator provides 1.8 V from DVDD. [see datasheet]", 75 DVDD (power) "Digital circuit power terminals. A parallel combination of high frequency decoupling capacitors near each DVDD terminal is suggested, such as 0.1 uF and 0.001 uF. [see datasheet]", 76 DGND (power) "Digital circuit ground terminals. These terminals must be tied together to the low-impedance circuit board ground plane", 80 AVDD (power) "Analog circuit power terminals. A parallel combination of high frequency decoupling capacitors near each terminal is suggested, such as 0.1  uF and 0.001  uF. [see datasheet]", 81 AGND (power) "Analog circuit ground terminals. These terminals must be tied together to the low-impedance circuit board ground plane", 82 AVDD (power) "Analog circuit power terminals. A parallel combination of high frequency decoupling capacitors near each terminal is suggested, such as 0.1  uF and 0.001  uF. [see datasheet]", 83 AGND (power) "Analog circuit ground terminals. These terminals must be tied together to the low-impedance circuit board ground plane", 86 AGND (power) "Analog circuit ground terminals. These terminals must be tied together to the low-impedance circuit board ground plane", 90 AGND (power) "Analog circuit ground terminals. These terminals must be tied together to the low-impedance circuit board ground plane", 91 AVDD (power) "Analog circuit power terminals. A parallel combination of high frequency decoupling capacitors near each terminal is suggested, such as 0.1  uF and 0.001  uF. [see datasheet]", 94 AGND (power) "Analog circuit ground terminals. These terminals must be tied together to the low-impedance circuit board ground plane", 95 AVDD (power) "Analog circuit power terminals. A parallel combination of high frequency decoupling capacitors near each terminal is suggested, such as 0.1  uF and 0.001  uF. [see datasheet]", 99 AGND (power) "Analog circuit ground terminals. These terminals must be tied together to the low-impedance circuit board ground plane", 100 AVDD (power) "Analog circuit power terminals. A parallel combination of high frequency decoupling capacitors near each terminal is suggested, such as 0.1  uF and 0.001  uF. [see datasheet]", 103 AVDD (power) "Analog circuit power terminals. A parallel combination of high frequency decoupling capacitors near each terminal is suggested, such as 0.1  uF and 0.001  uF. [see datasheet]", 111 AGND (power) "Analog circuit ground terminals. These terminals must be tied together to the low-impedance circuit board ground plane", 112 AVDD (power) "Analog circuit power terminals. A parallel combination of high frequency decoupling capacitors near each terminal is suggested, such as 0.1  uF and 0.001  uF. [see datasheet]", 117 PLLVDD (power) "PLL circuit power terminal. A parallel combination of high frequency decoupling capacitors near the terminal is suggested, such as 0.1 uF and 0.001 uF. [see datasheet]", 118 PLLGND (power) "PLL circuit ground terminal. This terminal must be tied to the low-impedance circuit board ground plane.", 125 DVDD (power) "Digital circuit power terminals. A parallel combination of high frequency decoupling capacitors near each DVDD terminal is suggested, such as 0.1 uF and 0.001 uF. [see datasheet]", 127 DGND (power) "Digital circuit ground terminals. These terminals must be tied together to the low-impedance circuit board ground plane", 130 VDDP (power) "PCI signaling clamp voltage power input. PCI signals are clamped per the PCI Local Bus Specification. In addition, if a 5-V ROM is used, the VDDP must be connected to 5 V", 133 DGND (power) "Digital circuit ground terminals. These terminals must be tied together to the low-impedance circuit board ground plane", 137 DVDD (power) "Digital circuit power terminals. A parallel combination of high frequency decoupling capacitors near each DVDD terminal is suggested, such as 0.1 uF and 0.001 uF. [see datasheet]", 140 REG18 (power) "REG18. 1.8-V power supply for the device core. The internal voltage regulator provides 1.8 V from DVDD. [see datasheet]"
part F pins: 1 NC, 2 NC, 35 NC, 36 NC, 37 NC, 38 NC, 71 NC, 72 NC, 73 NC, 74 NC, 107 NC, 108 NC, 109 NC, 110 NC, 143 NC, 144 NC